# Altium integrated library MMCLib.IntLib: 4 symbols
Pins are listed as number, name and electrical type; pins without a type are passive.

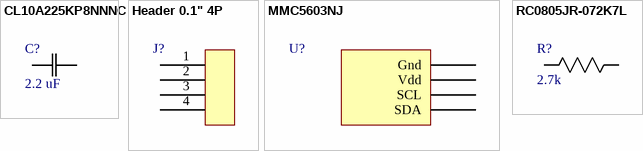
[diagram p0: symbols CL10A225KP8NNNC to RC0805JR-072K7L]

## CL10A225KP8NNNC
designator C?  value 2.2 uF  (hidden comment: CL10A225KP8NNNC)
CAP CER 2.2UF 10V X5R 0603; Mfr_Name: Samsung; Type: DEV; Copyright: Copyright (C) 2022 Ultra Librarian. All rights reserved.; Manufacturer_Part_Number: CL10A225KP8NNNC; Digi-Key_Part_Number_1: 1276-1085-2-ND; Digi-Key_Part_Number_2: 1276-1085-1-ND; Digi-Key_Part_Number_3: 1276-1085-6-ND; RefDes: RefDes
footprint CAP 0603
pins: 1, 2

## Header 0.1" 4P
designator J?
CONN SIL HDR MALE PIN
footprint 0.1" Header 4P
pins: 1, 2, 3, 4

## MMC5603NJ
designator U?  (value not drawn)
3-AXIS AMR MAGNETIC SENSOR; Supplier 1: Digi-Key; Supplier 2: Digi-Key; Supplier 3: Digi-Key; Supplier 4: Mouser; Supplier Part Number 1: 1267-MMC5603NJCT-ND; Supplier Part Number 2: 1267-MMC5603NJDKR-ND; Supplier Part Number 3: 1267-MMC5603NJTR-ND; Supplier Part Number 4: 438-MMC5603NJ
footprint 4-WLP
pins: A1 Gnd (power), A2 SCL (oc), B1 Vdd (power), B2 SDA (oc)

## RC0805JR-072K7L
designator R?  value 2.7k  (hidden comment: RC0805JR-072K7L)
No Description Available; Mfr_Name: Yageo; Copyright: Copyright (C) 2022 Ultra Librarian. All rights reserved.; Manufacturer_Part_Number: RC0805JR-072K7L; Digi-Key_Part_Number_1: 311-2.7KARCT-ND; Digi-Key_Part_Number_2: 311-2.7KARDKR-ND; Digi-Key_Part_Number_3: 311-2.7KARTR-ND; RefDes: RefDes; Type: DEV
footprint RES 0805
pins: 1, 2